# Altium schematic symbol library PhotoRes.Schlib: 1 symbol
Pins are listed as number, name and electrical type; pins without a type are passive.

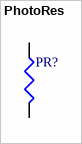
[diagram p0: symbol PhotoRes]

## PhotoRes
designator PR?
PhotoResistor
signal-integrity model Res
pins: 1, 2
2 alternate drawings of the same symbol